# Altium footprint library DO-35.PcbLib: 1 footprints
Each footprint in its own frame and in the unit in brackets; x right, y up, seen from the top. Pads: shape width x height; smd on the part's side, far side on the other; paste and mask are expansions set on the pad; w line width, h text height; cw(c..) or ccw(c..) is an arc to the next point about the centre after c.
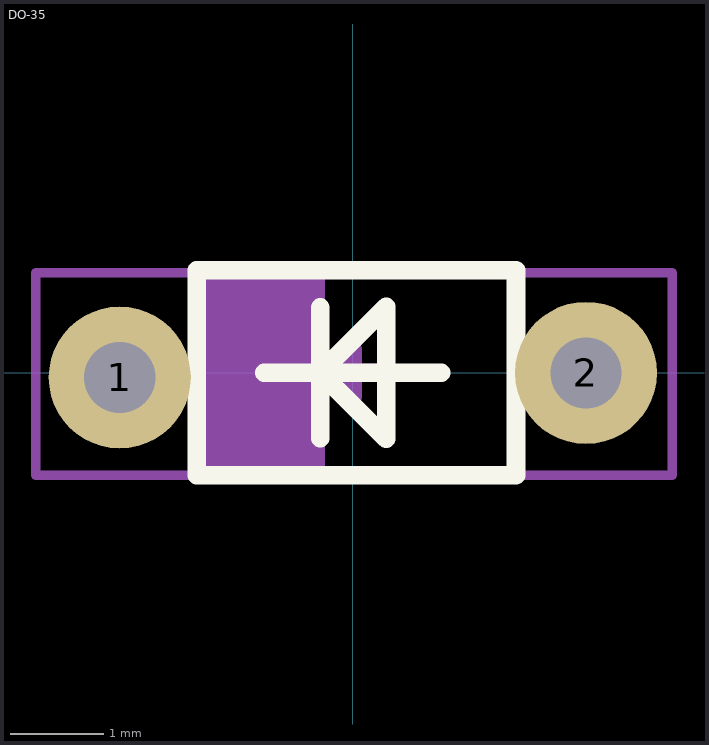
[diagram p0: the footprint, top view; thin cyan lines are the x and y axes]

## DO-35 [mil]
height 35.43
pads (2):
  round 60 hole 30: 1(-98.43,-1.97) 2(98.43,0)
Top Overlay:
  lines w7.87: -37.4,0 -13.78,0 ; -13.78,-27.56 -13.78,0 ; -13.78,27.56 -13.78,0 ; 37.4,0 -13.78,0 ; -13.78,0 14.06,27.84 14.06,-27.84 -13.78,0 ; -65.94,-43.31 68.9,-43.31 68.9,43.31 -65.94,43.31 -65.94,-43.31
Top Assembly:
  rectangle: -62.99,-44.29 -11.81,41.34
  lines w3.94: -133.86,-43.31 112.2,-43.31 134.84,-43.31 134.84,42.32 -133.86,42.32 -133.86,-43.31
  lines w7.87: -9.84,0 9.84,0 ; 0,-9.84 0,9.84
  text "'.Designator'" at -37.4,-13.78 h27.56
3D body "User Library-DO-35G-20.STEP": height 71.69, standoff -78.74, extent -110.83,-35.47 110.83,35.47